# EAGLE library part GP2W0004YP (library newchips)
Sharp IrDA Infrared Transceiver 115kbit/s
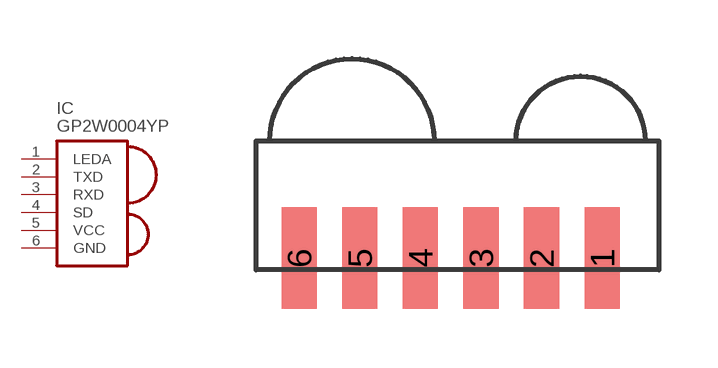
[diagram p14: symbol with the pads of GP2W0004YP; footprint GP2W0004YP]

Designator prefix IC

## GP2W0004YP  [GP2W0004YP]
1  LEDA  pas
2  TXD  in
3  RXD  out
4  SD  in
5  VCC  pwr
6  GND  pwr

## Footprint GP2W0004YP (pad centres in mm)
smd 0.9 x 2.6: 1 0,0; 2 -1.55,0; 3 -3.1,0; 4 -4.65,0; 5 -6.2,0; 6 -7.75,0